# Altium footprint library mini-rockets.PcbLib: 2 footprints
Each footprint in its own frame and in the unit in brackets; x right, y up, seen from the top. Pads: shape width x height; smd on the part's side, far side on the other; paste and mask are expansions set on the pad; w line width, h text height; cw(c..) or ccw(c..) is an arc to the next point about the centre after c.
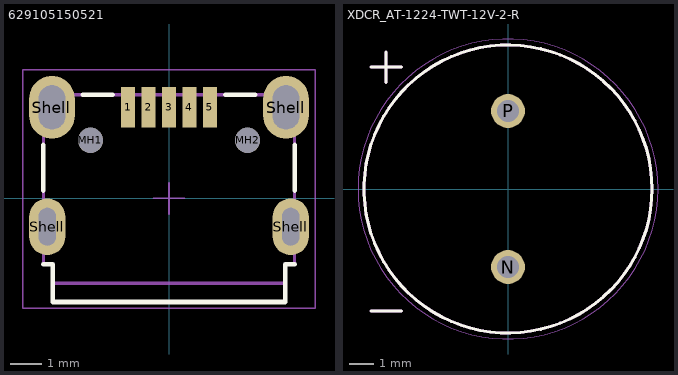
[diagram p0: the footprints below, top view; thin cyan lines are the x and y axes]

## 629105150521 [mm] "Micro USB 2.0 SMT Type B Horizontal 5 Contacts High Current"
height 2.66
pads (11):
  rect 0.45x1.3 smd: 1(-1.3,2.9) 2(-0.65,2.9) 3(0,2.9) 4(0.65,2.9) 5(1.3,2.9)
  round 0.8 hole 0.8 unplated: MH1(-2.5,1.85) MH2(2.5,1.85)
  oval 1.15x1.8 hole 0.55 slot 1.2 at 90 deg: Shell(-3.875,-0.9) Shell(3.875,-0.9)
  oval 1.45x2 hole 0.85 slot 1.4 at 90 deg: Shell(-3.725,2.9) Shell(3.725,2.9)
Top Overlay:
  lines w0.15: -4,-2.1 -3.7,-2.1 -3.7,-3.3 3.7,-3.3 3.7,-2.1 4,-2.1 ; -4,0.25 -4,1.7 ; -2.75,3.3 -1.8,3.3 ; 1.8,3.3 2.75,3.3 ; 4,0.25 4,1.7
Mechanical 2:
  lines w0.1: -3.7,-2.7 3.7,-2.7
  text "PCB Edge" at -1.3,-3.3 h0.41
Top Designator:
  text ".Designator" at -7.498,-0.5 h1.5
Top Component Outline:
  lines w0.1: -4,-2.1 -3.7,-2.1 -3.7,-3.3 3.7,-3.3 3.7,-2.1 4,-2.1 4,3.3 -4,3.3 -4,-2.1
Top 3D Body:
  lines w0.1: -4,-2.1 -4,3.3 4,3.3 4,-2.1 3.7,-2.1 3.7,-3.3 -3.7,-3.3 -3.7,-2.1 -4,-2.1
Top Courtyard:
  lines w0.05: -0.5,0 0.5,0 ; 0,-0.5 0,0.5 ; -4.65,-3.5 4.65,-3.5 4.65,4.1 -4.65,4.1 -4.65,-3.5
3D body "629105150521.stp": height 2.75, standoff -1.77, extent -4,-3.3 4,3.303

## XDCR_AT-1224-TWT-12V-2-R [mm]
pads (2):
  round 1.408 hole 0.9: N(0,-3.25) P(0,3.25)
Top Overlay:
  circle w0.127: c0,0 r6
  lines w0.127: -5.715,-5.08 -4.445,-5.08 ; -5.715,5.08 -4.445,5.08 ; -5.08,4.445 -5.08,5.715
Top 3D Body:
  circle w0.127: c0,0 r6
  lines w0.127: -5.715,-5.08 -4.445,-5.08 ; -5.715,5.08 -4.445,5.08 ; -5.08,4.445 -5.08,5.715
Top Courtyard:
  circle w0.05: c0,0 r6.25
3D body "step_temp.STEP": height 9.07, standoff -5.98, extent -8.739,-5.993 5.999,5.998